# Altium footprint library iTimeAfrica_Footprints.PcbLib: 27 footprints (part 1 of 2)
Each footprint in its own frame and in the unit in brackets; x right, y up, seen from the top. Pads: shape width x height; smd on the part's side, far side on the other; paste and mask are expansions set on the pad; w line width, h text height; cw(c..) or ccw(c..) is an arc to the next point about the centre after c.
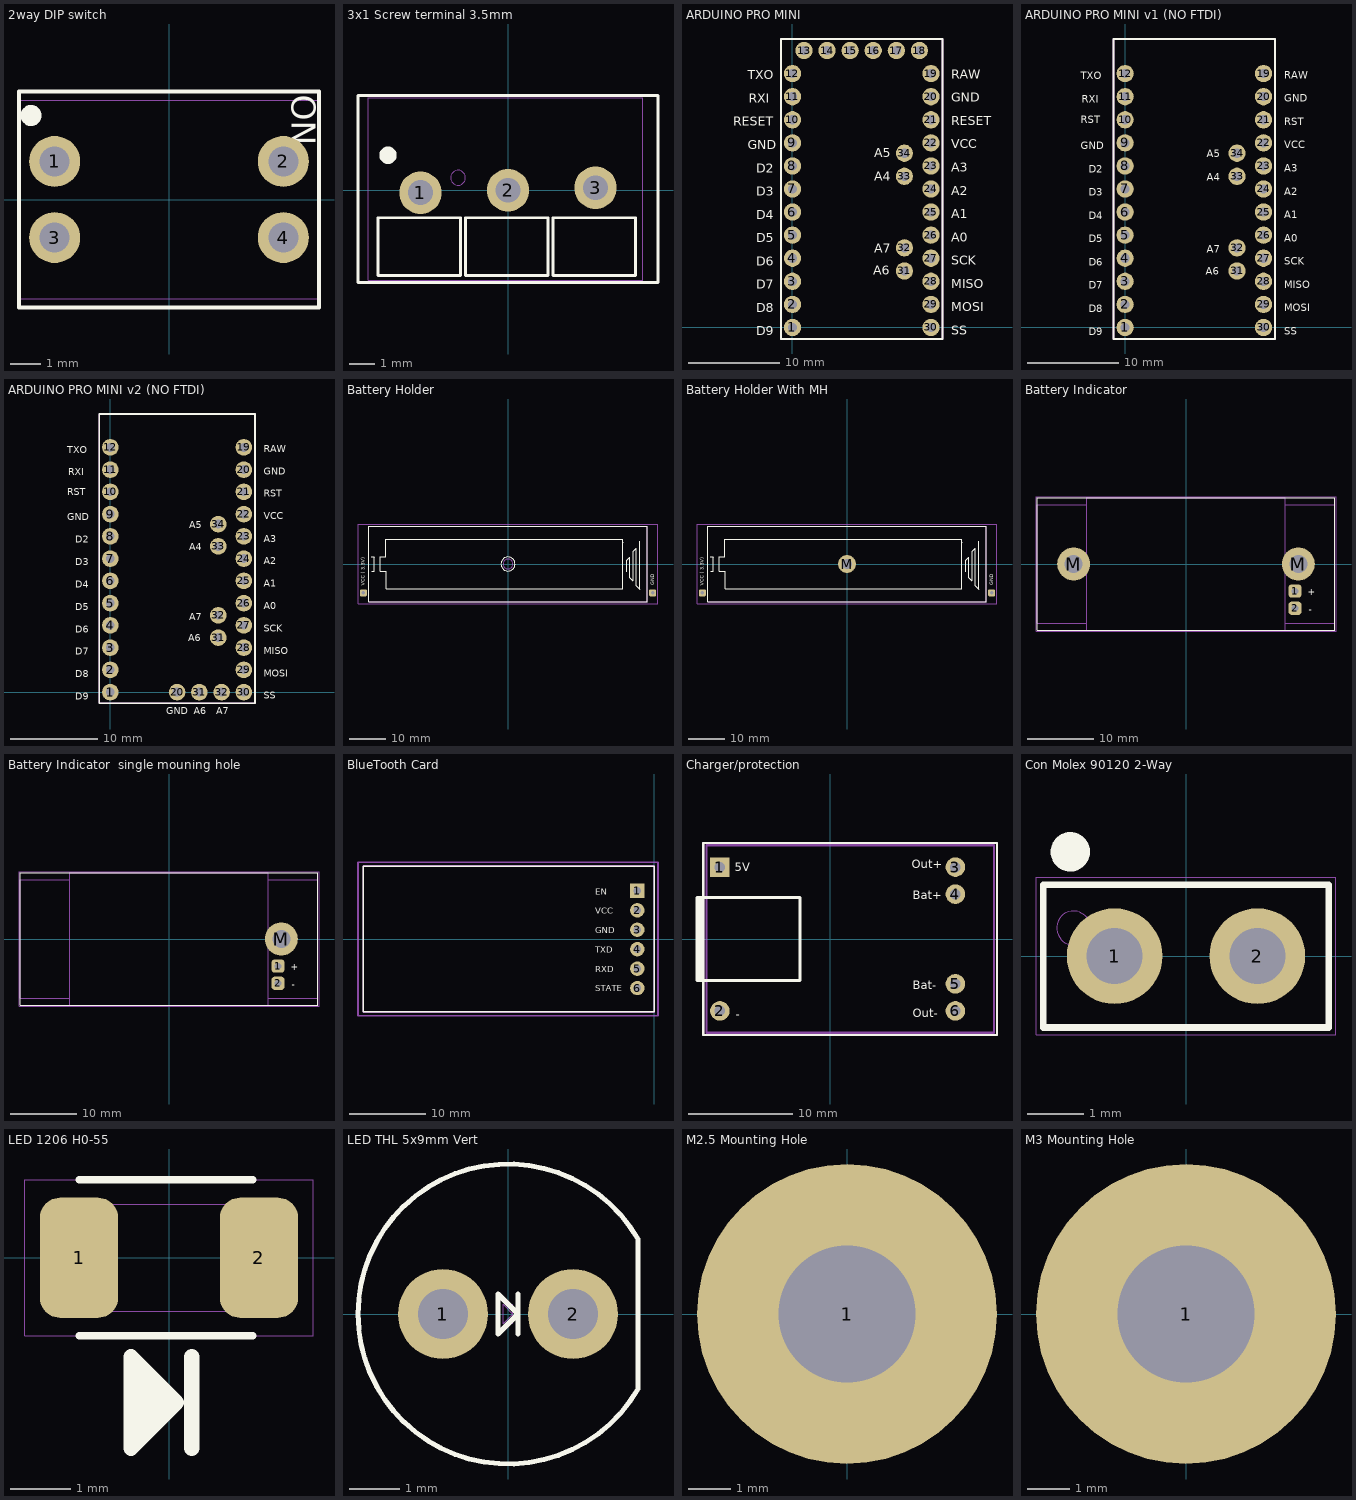
[diagram p0: the footprints below, top view; thin cyan lines are the x and y axes]

## 2way DIP switch [mm] "2way DIP switch 2.54pitch"
height 7.1
pads (4):
  round 1.7 hole 1: 1(-3.81,1.27) 2(3.81,1.27) 3(-3.81,-1.27) 4(3.81,-1.27)
Top Overlay:
  circle w0.4: c-4.6,2.8 r0.15
  lines w0.12: -5,-3.6 5,-3.6 5,3.6 -5,3.6 -5,-3.6
  text "ON" at 4.1,3.5 h0.8
Mechanical 9:
  text "v1.1 - IPC Level B" at -4,-0.4 h0.7
Mechanical 11:
  circle w0.02: c-3.9,1.2 r0.3
  lines w0.02: -5,-3.3 -5,3.3 5,3.3 5,-3.3 -5,-3.3
  text ".Designator" at -2,-0.5 h0.8
Mechanical 15:
  lines w0.02: -5,-3.3 5,-3.3 5,3.3 -5,3.3 -5,-3.3
3D body "a6d-2100.stp": height 4.4, standoff -3.6, extent -4.203,-3.55 4.004,3.55

## 3x1 Screw terminal 3.5mm [mm] "Con Screw terminal 3.5mm"
height 8.5
pads (3):
  round 1.7 hole 1: 1(-3.5,-0.1) 2(0,0) 3(3.5,0.1)
Top Overlay:
  circle w0.4: c-4.8,1.4 r0.15
  lines w0.12: -6,-3.7 -6,3.8 6,3.8 6,-3.7 -6,-3.7 ; -5.2,-3.4 -1.9,-3.4 -1.9,-1.1 -5.2,-1.1 -5.2,-3.4 ; -1.7,-3.4 -1.7,-1.1 1.6,-1.1 1.6,-3.4 -1.7,-3.4 ; 1.8,-3.4 1.8,-1.1 5.1,-1.1 5.1,-3.4 1.8,-3.4
Mechanical 9:
  text "v1.1 - IPC Level B" at -4,-0.4 h0.7
Mechanical 11:
  circle w0.02: c-2,0.5 r0.3
  lines w0.02: -5.6,-3.6 5.4,-3.6 5.4,3.7 -5.6,3.7 -5.6,-3.6
  text ".Designator" at -2,-0.5 h0.8
Mechanical 15:
  lines w0.02: -6,-3.7 -6,3.8 6,3.8 6,-3.7 -6,-3.7
3D body "51660.stp": height 8.5, standoff -3.5, extent -5.6,-3.6 5.4,3.7

## ARDUINO PRO MINI [mm] "ARDUINO PRO MINI"
pads (34):
  round 1.9 hole 1: 1(0,0) 2(0,2.54) 3(0,5.08) 4(0,7.62) 5(0,10.16) 6(0,12.7) 7(0,15.24) 8(0,17.78) 9(0,20.32) 10(0,22.86) 11(0,25.4) 12(0,27.94) 13(1.27,30.48) 14(3.81,30.48) 15(6.35,30.48) 16(8.89,30.48) 17(11.43,30.48) 18(13.97,30.48) 19(15.24,27.94) 20(15.24,25.4) 21(15.24,22.86) 22(15.24,20.32) 23(15.24,17.78) 24(15.24,15.24) 25(15.24,12.7) 26(15.24,10.16) 27(15.24,7.62) 28(15.24,5.08) 29(15.24,2.54) 30(15.24,0) 31(12.319,6.223) 32(12.319,8.763) 33(12.319,16.637) 34(12.319,19.177)
Top Overlay:
  lines w0.203: -1.27,-1.27 16.51,-1.27 16.51,31.75 -1.27,31.75 -1.27,-1.27
  text "D8" at -4,1.679 h1
  text "D7" at -4,4.237 h1
  text "D6" at -4,6.795 h1
  text "D5" at -4,9.354 h1
  text "D4" at -4,11.912 h1
  text "D3" at -4,14.47 h1
  text "D2" at -4,17.028 h1
  text "D9" at -4,-0.879 h1
  text "RESET" at -6.495,22.179 h1
  text "RXI" at -4.795,24.737 h1
  text "TXO" at -4.895,27.295 h1
  text "GND" at -4.895,19.621 h1
  text "VCC" at 17.5,19.721 h1
  text "RAW" at 17.5,27.395 h1
  text "GND" at 17.5,24.837 h1
  text "RESET" at 17.5,22.279 h1
  text "SS" at 17.5,-0.779 h1
  text "A3" at 17.5,17.128 h1
  text "A2" at 17.5,14.57 h1
  text "A1" at 17.5,12.012 h1
  text "A0" at 17.5,9.454 h1
  text "SCK" at 17.5,6.895 h1
  text "MISO" at 17.5,4.337 h1
  text "MOSI" at 17.5,1.779 h1
  text "A6" at 8.9,5.8 h1
  text "A7" at 9,8.2 h1
  text "A4" at 9,16.17 h1
  text "A5" at 9,18.728 h1
Mechanical 11:
  lines w0.203: -1.27,-1.27 16.51,-1.27 16.51,31.75 -1.27,31.75 -1.27,-1.27
  text ".Designator" at 5.337,13.851 h0.8
Mechanical 15:
  lines w0.203: -1.27,-1.27 16.51,-1.27 16.51,31.75 -1.27,31.75 -1.27,-1.27
3D body "ARDUINO PRO MINI.STEP": height 6.2, standoff 3, extent -1.27,-1.27 16.51,31.75

## ARDUINO PRO MINI v1 (NO FTDI) [mm] "ARDUINO PRO MINI"
pads (28):
  round 1.9 hole 1: 1(0,0) 2(0,2.54) 3(0,5.08) 4(0,7.62) 5(0,10.16) 6(0,12.7) 7(0,15.24) 8(0,17.78) 9(0,20.32) 10(0,22.86) 11(0,25.4) 12(0,27.94) 19(15.24,27.94) 20(15.24,25.4) 21(15.24,22.86) 22(15.24,20.32) 23(15.24,17.78) 24(15.24,15.24) 25(15.24,12.7) 26(15.24,10.16) 27(15.24,7.62) 28(15.24,5.08) 29(15.24,2.54) 30(15.24,0) 31(12.319,6.223) 32(12.319,8.763) 33(12.319,16.637) 34(12.319,19.177)
Top Overlay:
  lines w0.203: -1.27,-1.27 -1.27,31.75 16.51,31.75 16.51,-1.27 -1.27,-1.27
  text "A5" at 9,18.728 h0.8
  text "A4" at 9,16.17 h0.8
  text "A7" at 9,8.2 h0.8
  text "A6" at 8.9,5.8 h0.8
  text "MOSI" at 17.5,1.779 h0.8
  text "MISO" at 17.5,4.337 h0.8
  text "SCK" at 17.5,6.895 h0.8
  text "A0" at 17.5,9.454 h0.8
  text "A1" at 17.5,12.012 h0.8
  text "A2" at 17.5,14.57 h0.8
  text "A3" at 17.5,17.128 h0.8
  text "SS" at 17.5,-0.779 h0.8
  text "RST" at 17.5,22.279 h0.8
  text "GND" at 17.5,24.837 h0.8
  text "RAW" at 17.5,27.395 h0.8
  text "VCC" at 17.5,19.721 h0.8
  text "GND" at -4.895,19.621 h0.8
  text "TXO" at -4.895,27.295 h0.8
  text "RXI" at -4.795,24.737 h0.8
  text "RST" at -4.9,22.5 h0.8
  text "D9" at -4,-0.879 h0.8
  text "D2" at -4,17.028 h0.8
  text "D3" at -4,14.47 h0.8
  text "D4" at -4,11.912 h0.8
  text "D5" at -4,9.354 h0.8
  text "D6" at -4,6.795 h0.8
  text "D7" at -4,4.237 h0.8
  text "D8" at -4,1.679 h0.8
Mechanical 11:
  lines w0.203: -1.27,-1.27 -1.27,31.75 16.51,31.75 16.51,-1.27 -1.27,-1.27
  text ".Designator" at 5.337,13.851 h0.8
Mechanical 15:
  lines w0.203: -1.27,-1.27 -1.27,31.75 16.51,31.75 16.51,-1.27 -1.27,-1.27
3D body "ARDUINO PRO MINI.STEP": height 6.2, standoff 3, extent -1.27,-1.27 16.51,31.75
3D body: height 5, standoff -1, extent -0.496,-0.499 0.5,0.499
3D body: height 5, standoff -1, extent -0.496,2.041 0.5,3.039
3D body: height 5, standoff -1, extent -0.496,4.581 0.5,5.579
3D body: height 5, standoff -1, extent -0.496,7.301 0.5,8.299
3D body: height 5, standoff -1, extent -0.496,9.661 0.5,10.659
3D body: height 5, standoff -1, extent -0.496,12.201 0.5,13.199
3D body: height 5, standoff -1, extent -0.496,14.741 0.5,15.739
3D body: height 5, standoff -1, extent -0.496,17.281 0.5,18.279
3D body: height 5, standoff -1, extent -0.496,19.821 0.5,20.819
3D body: height 5, standoff -1, extent -0.496,22.361 0.5,23.359
3D body: height 5, standoff -1, extent -0.496,24.901 0.5,25.899
3D body: height 5, standoff -1, extent -0.496,27.441 0.5,28.439
3D body: height 5, standoff -1, extent 14.744,-0.499 15.74,0.499
3D body: height 5, standoff -1, extent 14.744,2.041 15.74,3.039
3D body: height 5, standoff -1, extent 14.744,4.581 15.74,5.579
3D body: height 5, standoff -1, extent 14.744,7.121 15.74,8.119
3D body: height 5, standoff -1, extent 14.744,9.661 15.74,10.659
3D body: height 5, standoff -1, extent 14.744,12.201 15.74,13.199
3D body: height 5, standoff -1, extent 14.744,14.741 15.74,15.739
3D body: height 5, standoff -1, extent 14.744,17.281 15.74,18.279
3D body: height 5, standoff -1, extent 14.744,19.821 15.74,20.819
3D body: height 5, standoff -1, extent 14.744,22.361 15.74,23.359
3D body: height 5, standoff -1, extent 14.744,24.901 15.74,25.899
3D body: height 5, standoff -1, extent 14.744,27.441 15.74,28.439
3D body: height 5, standoff -1, extent 11.823,18.678 12.819,19.676
3D body: height 5, standoff -1, extent 11.823,16.138 12.819,17.136
3D body: height 5, standoff -1, extent 11.823,8.264 12.819,9.262
3D body: height 5, standoff -1, extent 11.823,5.724 12.819,6.722

## ARDUINO PRO MINI v2 (NO FTDI) [mm] "ARDUINO PRO MINI with alternate a6 a7"
pads (31):
  round 1.9 hole 1: 1(0,0) 2(0,2.54) 3(0,5.08) 4(0,7.62) 5(0,10.16) 6(0,12.7) 7(0,15.24) 8(0,17.78) 9(0,20.32) 10(0,22.86) 11(0,25.4) 12(0,27.94) 19(15.24,27.94) 20(7.62,0) 20(15.24,25.4) 21(15.24,22.86) 22(15.24,20.32) 23(15.24,17.78) 24(15.24,15.24) 25(15.24,12.7) 26(15.24,10.16) 27(15.24,7.62) 28(15.24,5.08) 29(15.24,2.54) 30(15.24,0) 31(10.16,0) 31(12.319,6.223) 32(12.319,8.763) 32(12.7,0) 33(12.319,16.637) 34(12.319,19.177)
Top Overlay:
  lines w0.203: -1.27,-1.27 -1.27,31.75 16.51,31.75 16.51,-1.27 -1.27,-1.27
  text "A5" at 9,18.728 h0.8
  text "A4" at 9,16.17 h0.8
  text "A7" at 9,8.2 h0.8
  text "A6" at 8.9,5.8 h0.8
  text "MOSI" at 17.5,1.779 h0.8
  text "MISO" at 17.5,4.337 h0.8
  text "SCK" at 17.5,6.895 h0.8
  text "A0" at 17.5,9.454 h0.8
  text "A1" at 17.5,12.012 h0.8
  text "A2" at 17.5,14.57 h0.8
  text "A3" at 17.5,17.128 h0.8
  text "SS" at 17.5,-0.779 h0.8
  text "RST" at 17.5,22.279 h0.8
  text "GND" at 17.5,24.837 h0.8
  text "RAW" at 17.5,27.395 h0.8
  text "VCC" at 17.5,19.721 h0.8
  text "GND" at -4.895,19.621 h0.8
  text "TXO" at -4.895,27.295 h0.8
  text "RXI" at -4.795,24.737 h0.8
  text "RST" at -4.9,22.5 h0.8
  text "D9" at -4,-0.879 h0.8
  text "D2" at -4,17.028 h0.8
  text "D3" at -4,14.47 h0.8
  text "D4" at -4,11.912 h0.8
  text "D5" at -4,9.354 h0.8
  text "D6" at -4,6.795 h0.8
  text "D7" at -4,4.237 h0.8
  text "D8" at -4,1.679 h0.8
  text "A6" at 9.5,-2.5 h0.8
  text "A7" at 12.1,-2.5 h0.8
  text "GND" at 6.4,-2.5 h0.8
Mechanical 11:
  lines w0.203: -1.27,-1.27 -1.27,31.75 16.51,31.75 16.51,-1.27 -1.27,-1.27
  text ".Designator" at 5.337,13.851 h0.8
Mechanical 15:
  lines w0.203: -1.27,-1.27 -1.27,31.75 16.51,31.75 16.51,-1.27 -1.27,-1.27
3D body "ARDUINO PRO MINI.STEP": height 6.2, standoff 3, extent -1.27,-1.27 16.51,31.75
3D body: height 5, standoff -1, extent -0.496,-0.499 0.5,0.499
3D body: height 5, standoff -1, extent -0.496,2.041 0.5,3.039
3D body: height 5, standoff -1, extent -0.496,4.581 0.5,5.579
3D body: height 5, standoff -1, extent -0.496,7.301 0.5,8.299
3D body: height 5, standoff -1, extent -0.496,9.661 0.5,10.659
3D body: height 5, standoff -1, extent -0.496,12.201 0.5,13.199
3D body: height 5, standoff -1, extent -0.496,14.741 0.5,15.739
3D body: height 5, standoff -1, extent -0.496,17.281 0.5,18.279
3D body: height 5, standoff -1, extent -0.496,19.821 0.5,20.819
3D body: height 5, standoff -1, extent -0.496,22.361 0.5,23.359
3D body: height 5, standoff -1, extent -0.496,24.901 0.5,25.899
3D body: height 5, standoff -1, extent -0.496,27.441 0.5,28.439
3D body: height 5, standoff -1, extent 14.744,-0.499 15.74,0.499
3D body: height 5, standoff -1, extent 14.744,2.041 15.74,3.039
3D body: height 5, standoff -1, extent 14.744,4.581 15.74,5.579
3D body: height 5, standoff -1, extent 14.744,7.121 15.74,8.119
3D body: height 5, standoff -1, extent 14.744,9.661 15.74,10.659
3D body: height 5, standoff -1, extent 14.744,12.201 15.74,13.199
3D body: height 5, standoff -1, extent 14.744,14.741 15.74,15.739
3D body: height 5, standoff -1, extent 14.744,17.281 15.74,18.279
3D body: height 5, standoff -1, extent 14.744,19.821 15.74,20.819
3D body: height 5, standoff -1, extent 14.744,22.361 15.74,23.359
3D body: height 5, standoff -1, extent 14.744,24.901 15.74,25.899
3D body: height 5, standoff -1, extent 14.744,27.441 15.74,28.439
3D body: height 5, standoff -1, extent 11.823,18.678 12.819,19.676
3D body: height 5, standoff -1, extent 11.823,16.138 12.819,17.136
3D body: height 5, standoff -1, extent 11.823,8.264 12.819,9.262
3D body: height 5, standoff -1, extent 11.823,5.724 12.819,6.722

## Battery Holder [mm]
height 20
pads (2):
  rrect50% 2x2 hole 1: 1(-40,-8) 2(40,-8)
Top Overlay:
  circle w0.254: c0,0 r1.942
  lines w0.12: -38.5,-10.4 38.5,-10.4 38.5,10.5 -38.5,10.5 -38.5,-10.4
  lines w0.254: -37.8,2 -37.1,2 -37,1.9 -37,-2 -37.7,-2 ; 31.8,5.9 31.7,6 31.7,6.8 -33.8,6.8 -33.8,2 -35.4,2 -35.4,-2 -33.7,-2 -33.7,-6.8 31.8,-6.8 31.8,6.1 ; 32.8,-2.1 32.8,1 33.7,1.9 33.7,-1.6 33.7,-3.8 34.5,-4.6 34.6,-4.5 34.6,3.5 35.5,4.4 35.5,-6 36.5,-7 36.5,6.3
  text "VCC ( 3.3V)" at -39.6,-6 h1
  text "GND" at 40.4,-5.9 h1
Mechanical 9:
  text "V2.0" at -0.35,-0.1 h0.2
Mechanical 11:
  circle w0.1: c0,0 r1.36
  lines w0.02: -38.5,-10.4 38.5,-10.4 38.5,10.5 -38.5,10.5 -38.5,-10.4
  text ".Designator" at -2,-0.5 h0.8
Mechanical 15:
  lines w0.02: -41.5,-11 41.5,-11 41.5,11 -41.5,11 -41.5,-11
3D body: height 18.5, standoff 1.5, extent -35,-8.8 35,8.2
3D body: height 16, standoff 2, extent -38.5,-10.4 -37,9
3D body: height 16, standoff 2, extent 37,-10.4 38.5,9
3D body: height 16, standoff 2, extent -38.5,-10.4 38.5,-8.9
3D body: height 16, standoff 2, extent -38.5,9 38.5,10.5
3D body: height 2, standoff 0, extent -38.5,-10.4 38.5,10.5

## Battery Holder With MH [mm]
height 20
pads (3):
  rrect50% 2x2 hole 1: 1(-40,-8) 2(40,-8)
  round 5 hole 2.7: M(0,0)
Top Overlay:
  lines w0.12: -38.5,-10.4 38.5,-10.4 38.5,10.5 -38.5,10.5 -38.5,-10.4
  lines w0.254: -37.8,2 -37.1,2 -37,1.9 -37,-2 -37.7,-2 ; 31.8,5.9 31.7,6 31.7,6.8 -33.8,6.8 -33.8,2 -35.4,2 -35.4,-2 -33.7,-2 -33.7,-6.8 31.8,-6.8 31.8,6.1 ; 32.8,-2.1 32.8,1 33.7,1.9 33.7,-1.6 33.7,-3.8 34.5,-4.6 34.6,-4.5 34.6,3.5 35.5,4.4 35.5,-6 36.5,-7 36.5,6.3
  text "VCC ( 3.3V)" at -39.6,-6 h1
  text "GND" at 40.4,-5.9 h1
Mechanical 9:
  text "V2.0" at -0.35,-0.1 h0.2
Mechanical 11:
  lines w0.02: -38.5,-10.4 38.5,-10.4 38.5,10.5 -38.5,10.5 -38.5,-10.4
  text ".Designator" at -2,-0.5 h0.8
Mechanical 15:
  lines w0.02: -41.5,-11 41.5,-11 41.5,11 -41.5,11 -41.5,-11
3D body: height 18.5, standoff 1.5, extent -35,-8.8 35,8.2
3D body: height 16, standoff 2, extent -38.5,-10.4 -37,9
3D body: height 16, standoff 2, extent 37,-10.4 38.5,9
3D body: height 16, standoff 2, extent -38.5,-10.4 38.5,-8.9
3D body: height 16, standoff 2, extent -38.5,9 38.5,10.5
3D body: height 2, standoff 0, extent -38.5,-10.4 38.5,10.5

## Battery Indicator [mm] "1S 3.7V Lithium Battery Capacity Indicator Module 4.2V 45x20mm"
height 8
pads (4):
  rrect50% 2x2 hole 1: 1(16.5,-4.1) 2(16.5,-6.7)
  round 5 hole 2.7: M(-17,0) M(17,0)
Top Overlay:
  lines w0.12: -22.5,-10 22.5,-10 22.5,10 -22.5,10 -22.5,-10
  text "+" at 18.4,-4.7 h1
  text "-" at 18.6,-7.4 h1
Mechanical 9:
  text "V2.0" at -0.35,-0.1 h0.2
Mechanical 11:
  lines w0.02: -22.5,-9 -15,-9 -15,9 -22.5,9 -22.5,-9 ; -15,-10 15,-10 15,10 -15,10 -15,-10 ; 15,-9 15,9 22.5,9 22.5,-9 15,-9
  text ".Designator" at -2,-0.5 h0.8
Mechanical 15:
  lines w0.02: -22.7,-10.2 22.7,-10.2 22.7,10.2 -22.7,10.2 -22.7,-10.2
3D body: height 8, standoff 6, extent -19,-2 -15,2
3D body: height 14.1, standoff 14, extent -10.75,-2.6 -8.45,2.6
3D body: height 14.1, standoff 14, extent -6.9,-6.5 -3.5,6.5
3D body: height 14.1, standoff 14, extent -2.2,-6.5 1.2,6.5
3D body: height 14.1, standoff 14, extent 2.8,-6.5 6.2,6.5
3D body: height 14, standoff 6, extent -14.9,-10.1 15,10
3D body: height 14.1, standoff 14, extent 7.8,-6.5 11.2,6.5
3D body: height 6, standoff 5, extent -22.6,-9 22.8,8.9
3D body: height 5, standoff -1, extent 16.004,-7.199 17,-6.201
3D body: height 5, standoff -1, extent 16.004,-4.599 17,-3.601

## Battery Indicator  single mouning hole [mm] "1S 3.7V Lithium Battery Capacity Indicator Module 4.2V 45x20mm"
height 8
pads (3):
  rrect50% 2x2 hole 1: 1(16.5,-4.1) 2(16.5,-6.7)
  round 5 hole 2.7: M(17,0)
Top Overlay:
  lines w0.12: -22.5,-10 22.5,-10 22.5,10 -22.5,10 -22.5,-10
  text "+" at 18.4,-4.7 h1
  text "-" at 18.6,-7.4 h1
Mechanical 9:
  text "V2.0" at -0.35,-0.1 h0.2
Mechanical 11:
  lines w0.02: -22.5,-9 -15,-9 -15,9 -22.5,9 -22.5,-9 ; -15,-10 15,-10 15,10 -15,10 -15,-10 ; 15,-9 15,9 22.5,9 22.5,-9 15,-9
  text ".Designator" at -2,-0.5 h0.8
Mechanical 15:
  lines w0.02: -22.7,-10.2 22.7,-10.2 22.7,10.2 -22.7,10.2 -22.7,-10.2
3D body: height 8, standoff 6, extent 15.1,-2 19.1,2
3D body: height 14.1, standoff 14, extent -10.75,-2.6 -8.45,2.6
3D body: height 14.1, standoff 14, extent -6.9,-6.5 -3.5,6.5
3D body: height 14.1, standoff 14, extent -2.2,-6.5 1.2,6.5
3D body: height 14.1, standoff 14, extent 2.8,-6.5 6.2,6.5
3D body: height 14, standoff 6, extent -14.9,-10.1 15,10
3D body: height 14.1, standoff 14, extent 7.8,-6.5 11.2,6.5
3D body: height 6, standoff 5, extent -22.6,-9 22.8,8.9
3D body: height 5, standoff -1, extent 16.004,-7.199 17,-6.201
3D body: height 5, standoff -1, extent 16.004,-4.599 17,-3.601

## BlueTooth Card [mm] "BlueTooth Card"
height 3
pads (6):
  rect 1.88x1.88 hole 1: 1(-2.2,6.29)
  round 1.88 hole 1: 2(-2.2,3.75) 3(-2.2,1.21) 4(-2.2,-1.33) 5(-2.2,-3.87) 6(-2.2,-6.41)
Top Overlay:
  lines w0.203: -38,-9.5 -38,9.5 0,9.5 0,-9.5 -38,-9.5
  text "EN" at -7.7,5.8 h0.8
  text "VCC" at -7.7,3.271 h0.8
  text "GND" at -7.7,0.743 h0.8
  text "TXD" at -7.7,-1.786 h0.8
  text "RXD" at -7.7,-4.314 h0.8
  text "STATE" at -7.7,-6.843 h0.8
Mechanical 9:
  text "V1.3" at -25.3,-0.5 h2
Mechanical 11:
  lines w0.203: -38,-9.6 -38,9.6 0,9.6 0,-9.6 -38,-9.6
  text ".Designator" at -22,-2.3 h0.8
Mechanical 15:
  lines w0.203: -38.7,-10 -38.7,10 0.5,10 0.5,-10 -38.7,-10
3D body: height 9.5, standoff 8.5, extent -38,-9.6 0,9.4
3D body: height 11, standoff -1, extent -2.696,-6.909 -1.7,-5.911
3D body: height 11, standoff -1, extent -2.696,-4.369 -1.7,-3.371
3D body: height 11, standoff -1, extent -2.696,-1.829 -1.7,-0.831
3D body: height 11, standoff -1, extent -2.696,0.711 -1.7,1.709
3D body: height 11, standoff -1, extent -2.696,3.251 -1.7,4.249
3D body: height 11, standoff -1, extent -2.696,5.791 -1.7,6.789

## Charger/protection [mm] "03962A charging and protection circuit"
height 8
pads (6):
  rect 1.88x1.88 hole 1: 1(-10.6,6.9)
  round 1.88 hole 1: 2(-10.6,-6.9) 3(12,6.9) 4(12,4.3) 5(12,-4.3) 6(12,-6.9)
Top Overlay:
  lines w0.203: -12.2,-9.2 16,-9.2 16,9.2 -12.2,9.2 -12.2,-9.2
  lines w0.3: -12.6,-4 -12.6,4 ; -12.4,-4 -12.4,4 ; -12.8,-4 -12.8,4 -2.9,4 -2.9,-4 -12.8,-4
  text "-" at -9.1,-7.6 h0.8
  text "Out-" at 7.9,-7.5 h0.8
  text "Bat-" at 7.9,-4.8 h0.8
  text "Bat+" at 7.9,3.8 h0.8
  text "Out+" at 7.8,6.8 h0.8
  text "5V" at -9.2,6.5 h0.8
Mechanical 9:
  text "v1.0" at -1.1,-2.6 h1.52
Mechanical 11:
  lines w0.203: -11.9,-9 15.7,-9 15.7,9 -11.9,9 -11.9,-9
  text ".Designator" at -0.6,-0.5 h0.8
Mechanical 15:
  lines w0.203: -12.2,-9.2 16,-9.2 16,9.2 -12.2,9.2 -12.2,-9.2
3D body: height 5.5, standoff 4.5, extent -4.5,5.55 -3.1,6.65
3D body: height 5.5, standoff 4.5, extent 6.05,2.5 8.95,6.5
3D body: height 5.5, standoff 4.5, extent 6.05,-5.3 8.95,-1.3
3D body: height 5.5, standoff 4.5, extent -1.5,-2.3 4.4,2.8
3D body: height 5.5, standoff 4.5, extent -2.1,5.55 -0.7,6.65
3D body: height 4.5, standoff 3, extent -11.9,-9 15.7,9
3D body: height 8, standoff 4.5, extent -12.8,-4 -2.9,4
3D body: height 6, standoff -1, extent 11.502,-7.4 12.498,-6.402
3D body: height 6, standoff -1, extent 11.504,-4.899 12.5,-3.901
3D body: height 6, standoff -1, extent 11.504,3.801 12.5,4.799
3D body: height 6, standoff -1, extent -11.096,-7.399 -10.1,-6.401
3D body: height 6, standoff -1, extent -11.196,6.401 -10.2,7.399
3D body: height 6, standoff -1, extent 11.504,6.401 12.5,7.399

## Con Molex 90120 2-Way [mm] "Connector Molex 90120 (2.54 Strip) 2-Way"
height 9.25
pads (2):
  round 1.7 hole 1: 1(-1.27,0) 2(1.27,0)
Top Overlay:
  circle w0.4: c-2.058,1.854 r0.15
  lines w0.12: -2.54,-1.27 2.54,-1.27 2.54,1.27 -2.54,1.27 -2.54,-1.27
Mechanical 9:
  text "v1.1 - IPC Level B" at -4,-0.4 h0.7
Mechanical 11:
  circle w0.02: c-2,0.5 r0.3
  lines w0.02: -2.54,-1.27 -2.54,1.27 2.54,1.27 2.54,-1.27 -2.54,-1.27
  text ".Designator" at -2,-0.5 h0.8
Mechanical 15:
  lines w0.02: -2.667,-1.397 2.667,-1.397 2.667,1.397 -2.667,1.397 -2.667,-1.397
3D body "XVTCON0058.stp": height 9.26, standoff -2.9, extent -2.54,-1.27 2.54,1.27

## LED 1206 H0-55 [mm] "LED"
pads (2):
  rrect50% 1.3x2 smd: 1(-1.5,0) 2(1.5,0)
Top Overlay:
  lines w0.12: -1.5,-1.3 1.4,-1.3 ; -1.5,1.3 1.4,1.3
  lines w0.254: -0.635,-2.159 -0.191,-2.603 ; -0.635,-1.905 -0.064,-2.476 ; 0.381,-3.175 0.381,-1.651 ; -0.064,-2.476 -0.445,-2.095 -0.445,-2.349 -0.445,-2.857 -0.064,-2.476 ; -0.635,-3.175 -0.635,-1.651 0.127,-2.413 -0.635,-3.175
Mechanical 9:
  text "V2.0" at -0.35,-0.1 h0.2
Mechanical 11:
  lines w0.02: -1.651,-0.889 1.651,-0.889 1.651,0.889 -1.651,0.889 -1.651,-0.889
  text ".Designator" at -2,-0.5 h0.8
Mechanical 15:
  lines w0.02: -2.4,-1.3 2.4,-1.3 2.4,1.3 -2.4,1.3 -2.4,-1.3
3D body "Res 1206.STEP": height 0.55, standoff 0, extent -1.55,-0.8 1.55,0.8

## LED THL 5x9mm Vert [mm] "LED THL 5x9mm"
height 10
pads (2):
  round 1.8 hole 1: 1(-1.3,0) 2(1.3,0)
Top Overlay:
  lines w0.1: 0.2,-0.4 0.2,0.4 ; -0.2,-0.4 -0.2,0.4 0.2,0 -0.2,-0.4 ; 2.598,-1.5 cw(c0,0) 2.598,1.5 2.598,-1.5
Mechanical 9:
  text "V2.0" at -1.1,-0.4 h0.6
Mechanical 11:
  lines w0.02: 0.1,-0.2 0.1,0.2 ; -0.1,-0.2 0.1,0 -0.1,0.2 -0.1,-0.2 ; 2.598,-1.5 cw(c0,0) 2.598,1.5 2.598,-1.5
  text ".Designator" at -2,0.2 h0.8
Mechanical 15:
  lines w0.02: 2.598,-1.5 cw(c0,0) 2.598,1.5 2.598,-1.5
3D body "SW3dPS-LEDd5C.STEP": height 12.31, standoff -2.49, extent -3.01,-3.01 2.41,3.01

## M2.5 Mounting Hole [mm] "M5,  Hole 2.7mm, Land 5mm"
pads (1):
  round 7 hole 3.2: 1(0,0)

## M3 Mounting Hole [mm] "Hole 3mm, Land 7mm"
pads (1):
  round 7 hole 3.2: 1(0,0)